# Altium schematic symbol library 703W-00_52.SchLib: 1 symbol
Pins are listed as number, name and electrical type; pins without a type are passive.

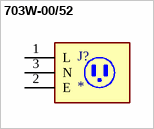
[diagram p0: symbol 703W-00/52]

## 703W-00/52
designator J?
3 Position 250 V 10 A Male Pins AC Receptacle Right Angle Connector; MP: 703W-00/52; MF: {'manufacturer': u'Qualtek'}; Value: *; Price: None; Package: None; Availability: Unavailable
footprint QUALTEK_703W-00/52
pins: 1 L (power), 2 E (power), 3 N (power)